# Altium footprint library 2809Control.pcblib: 31 footprints (part 2 of 2)
Each footprint in its own frame and in the unit in brackets; x right, y up, seen from the top. Pads: shape width x height; smd on the part's side, far side on the other; paste and mask are expansions set on the pad; w line width, h text height; cw(c..) or ccw(c..) is an arc to the next point about the centre after c.
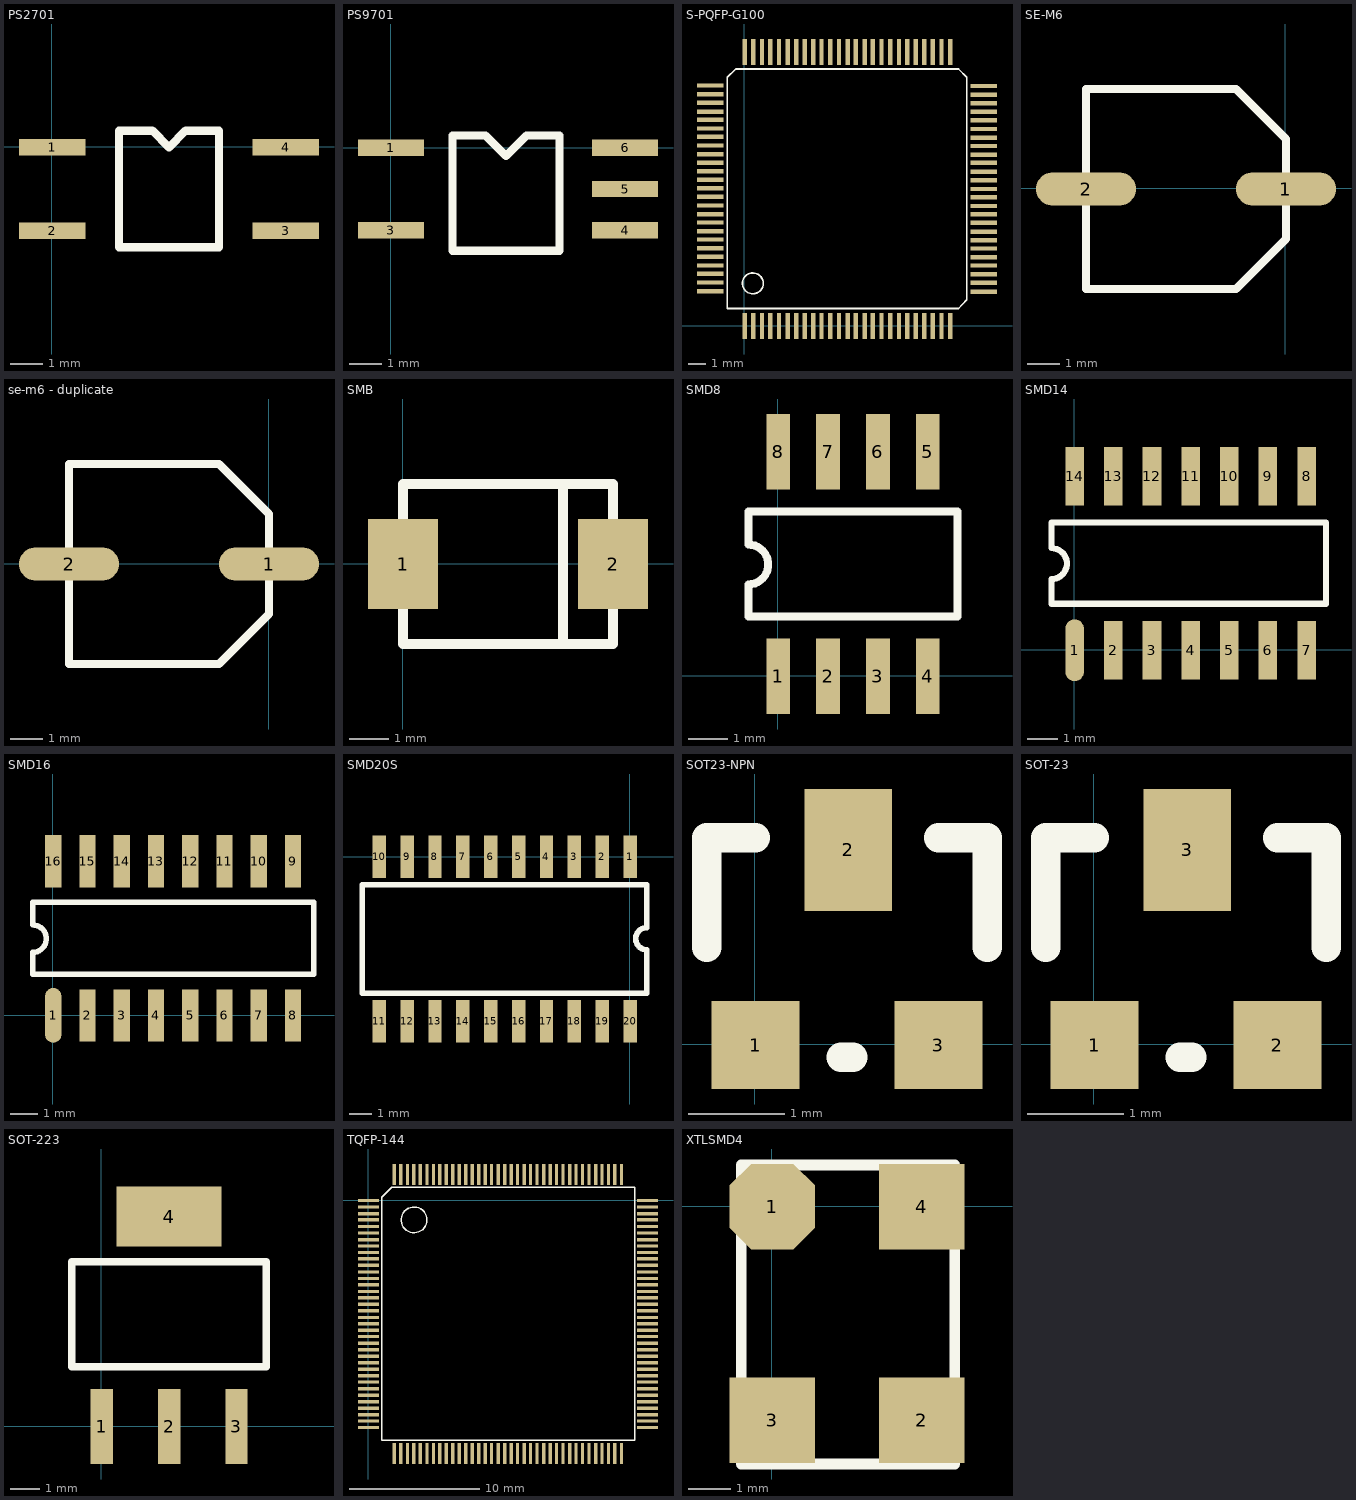
[diagram p1: the footprints below, top view; thin cyan lines are the x and y axes]

## PS2701 [mil]
pads (4):
  rect 80x20 smd: 1(0.82,-0.82) 2(0.82,-100.82) 3(280.82,-100.82) 4(280.82,-0.82)
TopOverlay:
  lines w10: 80.82,-120.82 200.82,-120.82 200.82,19.18 160.82,19.18 140.82,-0.82 120.82,19.18 80.82,19.18 80.82,-120.82

## PS9701 [mil]
pads (5):
  rect 80x20 smd: 1(0.42,-0.4) 3(0.42,-100.4) 4(285.42,-100.4) 5(285.42,-50.4) 6(285.42,-0.4)
TopOverlay:
  lines w5: 75.42,-125.4 205.42,-125.4 ; 115.42,14.6 140.42,-10.4 165.42,14.6
  lines w10: 75.42,-125.4 205.42,-125.4 205.42,14.6 165.42,14.6 140.42,-10.4 115.42,14.6 75.42,14.6 75.42,-125.4

## S-PQFP-G100 [mil]
pads (100):
  rect 10x60 smd: 1(0.41,-0.41) 2(20.41,-0.41) 3(40.41,-0.41) 4(59.41,-0.41) 5(79.41,-0.41) 6(99.41,-0.41) 7(119.41,-0.41) 8(138.41,-0.41) 9(158.41,-0.41) 10(177.41,-0.41) 11(197.41,-0.41) 12(217.41,-0.41) 13(237.41,-0.41) 14(256.41,-0.41) 15(276.41,-0.41) 16(295.41,-0.41) 17(315.41,-0.41) 18(335.41,-0.41) 19(355.41,-0.41) 20(374.41,-0.41) 21(394.41,-0.41) 22(413.41,-0.41) 23(433.41,-0.41) 24(453.41,-0.41) 25(473.41,-0.41) 51(473.41,629.59) 52(453.41,629.59) 53(433.41,629.59) 54(413.41,629.59) 55(394.41,629.59) 56(374.41,629.59) 57(355.41,629.59) 58(335.41,629.59) 59(315.41,629.59) 60(295.41,629.59) 61(276.41,629.59) 62(256.41,629.59) 63(237.41,629.59) 64(217.41,629.59) 65(197.41,629.59) 66(177.41,629.59) 67(158.41,629.59) 68(138.41,629.59) 69(119.41,629.59) 70(99.41,629.59) 71(79.41,629.59) 72(59.41,629.59) 73(40.41,629.59) 74(20.41,629.59) 75(0.41,629.59)
  rect 60x10 smd: 26(550.41,78.59) 27(550.41,98.59) 28(550.41,118.59) 29(550.41,138.59) 30(550.41,157.59) 31(550.41,177.59) 32(550.41,196.59) 33(550.41,216.59) 34(550.41,236.59) 35(550.41,256.59) 36(550.41,275.59) 37(550.41,295.59) 38(550.41,314.59) 39(550.41,334.59) 40(550.41,354.59) 41(550.41,374.59) 42(550.41,393.59) 43(550.41,413.59) 44(550.41,432.59) 45(550.41,452.59) 46(550.41,472.59) 47(550.41,492.59) 48(550.41,511.59) 49(550.41,531.59) 50(550.41,551.59) 76(-78.59,552.59) 77(-78.59,532.59) 78(-78.59,512.59) 79(-78.59,492.59) 80(-78.59,473.59) 81(-78.59,453.59) 82(-78.59,434.59) 83(-78.59,414.59) 84(-78.59,394.59) 85(-78.59,374.59) 86(-78.59,355.59) 87(-78.59,335.59) 88(-78.59,316.59) 89(-78.59,296.59) 90(-78.59,276.59) 91(-78.59,256.59) 92(-78.59,237.59) 93(-78.59,217.59) 94(-78.59,198.59) 95(-78.59,178.59) 96(-78.59,158.59) 97(-78.59,138.59) 98(-78.59,119.59) 99(-78.59,99.59) 100(-78.59,79.59)
TopOverlay:
  circle w4: c19.41,97.59 r24
  lines w4: -39.59,39.59 -39.59,571.59 -19.59,590.59 492.41,590.59 511.41,571.59 511.41,59.59 492.41,39.59 -39.59,39.59

## SE-M6 [mil]
pads (2):
  oval 120x40 smd: 1(0.84,-0.8) 2(-239.16,-0.8)
TopOverlay:
  lines w10: -239.16,-120.8 -79.16,-120.8 -59.16,-120.8 0.84,-60.8 0.84,59.2 -59.16,119.2 -79.16,119.2 -239.16,119.2 -239.16,-120.8

## se-m6 - duplicate [mil]
pads (2):
  oval 120x40 smd: 1(0.43,-0.39) 2(-239.57,-0.39)
TopOverlay:
  lines w10: -239.57,-120.39 -239.57,119.61 -79.57,119.61 -59.57,119.61 0.43,59.61 0.43,-60.39 -59.57,-120.39 -79.57,-120.39 -239.57,-120.39

## SMB [mil]
pads (2):
  rect 70x90 smd: 1(0.41,-0.41) 2(210.41,-0.41)
TopOverlay:
  lines w10: 160.41,-80.41 160.41,79.59 ; 0.41,-80.41 210.41,-80.41 210.41,79.59 0.41,79.59 0.41,-80.41

## SMD8 [mil]
pads (8):
  rect 24x76 smd: 1(0.43,-0.41) 2(50.43,-0.41) 3(100.43,-0.41) 4(150.43,-0.41) 5(150.43,224.59) 6(100.43,224.59) 7(50.43,224.59) 8(0.43,224.59)
TopOverlay:
  lines w8: -29.57,59.59 -29.57,91.59 ccw(c-29.57,111.59) -29.57,131.59 -29.57,164.59 180.43,164.59 180.43,59.59 -29.57,59.59

## SMD14 [mil]
pads (14):
  oval 24x80 smd: 1(0.42,-0.4)
  rect 24x76 smd: 2(50.42,-0.4) 3(100.42,-0.4) 4(150.42,-0.4) 5(200.42,-0.4) 6(250.42,-0.4) 7(300.42,-0.4) 8(300.42,224.6) 9(250.42,224.6) 10(200.42,224.6) 11(150.42,224.6) 12(100.42,224.6) 13(50.42,224.6) 14(0.42,224.6)
TopOverlay:
  lines w8: -29.58,59.6 -29.58,91.6 ccw(c-29.58,111.6) -29.58,131.6 -29.58,164.6 325.42,164.6 325.42,59.6 -29.58,59.6

## SMD16 [mil]
pads (16):
  oval 24x80 smd: 1(0.42,-0.4)
  rect 24x76 smd: 2(50.42,-0.4) 3(100.42,-0.4) 4(150.42,-0.4) 5(200.42,-0.4) 6(250.42,-0.4) 7(300.42,-0.4) 8(350.42,-0.4) 9(350.42,224.6) 10(300.42,224.6) 11(250.42,224.6) 12(200.42,224.6) 13(150.42,224.6) 14(100.42,224.6) 15(50.42,224.6) 16(0.42,224.6)
TopOverlay:
  lines w8: -29.58,59.6 -29.58,91.6 ccw(c-29.58,111.6) -29.58,131.6 -29.58,164.6 380.42,164.6 380.42,59.6 -29.58,59.6

## SMD20S [mil]
pads (20):
  rect 24x76 smd: 1(0.42,-0.4) 2(-49.58,-0.4) 3(-99.58,-0.4) 4(-149.58,-0.4) 5(-199.58,-0.4) 6(-249.58,-0.4) 7(-299.58,-0.4) 8(-349.58,-0.4) 9(-399.58,-0.4) 10(-449.58,-0.4) 11(-449.58,-295.4) 12(-399.58,-295.4) 13(-349.58,-295.4) 14(-299.58,-295.4) 15(-249.58,-295.4) 16(-199.58,-295.4) 17(-149.58,-295.4) 18(-99.58,-295.4) 19(-49.58,-295.4) 20(0.42,-295.4)
TopOverlay:
  lines w10: -479.58,-245.4 -479.58,-50.4 30.42,-50.4 30.42,-127.4 ccw(c30.42,-147.4) 30.42,-167.4 30.42,-245.4 -479.58,-245.4

## SOT23-NPN [mil]
pads (3):
  rect 36x36 smd: 1(0.42,-0.4) 3(75.42,-0.4)
  rect 36x50 smd: 2(38.42,79.6)
TopOverlay:
  lines w12: -19.58,39.6 -19.58,84.6 0.42,84.6 ; 35.42,-5.4 40.42,-5.4 ; 75.42,84.6 95.42,84.6 95.42,39.6

## SOT-23 [mil]
pads (3):
  rect 36x36 smd: 1(0.41,-0.41) 2(75.41,-0.41)
  rect 36x50 smd: 3(38.41,79.59)
TopOverlay:
  lines w12: -19.59,39.59 -19.59,84.59 0.41,84.59 ; 35.41,-5.41 40.41,-5.41 ; 75.41,84.59 95.41,84.59 95.41,39.59

## SOT-223 [mil]
pads (4):
  rect 30x100 smd: 1(0.42,-0.4) 2(90.42,-0.4) 3(180.42,-0.4)
  rect 140x80 smd: 4(90.42,279.6)
TopOverlay:
  lines w10: -39.58,79.6 220.42,79.6 220.42,219.6 -39.58,219.6 -39.58,79.6

## TQFP-144 [mil]
pads (144):
  rect 63x10 smd: 1(0.42,-0.4) 2(0.42,-20.4) 3(0.42,-40.4) 4(0.42,-59.4) 5(0.42,-79.4) 6(0.42,-99.4) 7(0.42,-119.4) 8(0.42,-138.4) 9(0.42,-158.4) 10(0.42,-177.4) 11(0.42,-197.4) 12(0.42,-217.4) 13(0.42,-237.4) 14(0.42,-256.4) 15(0.42,-276.4) 16(0.42,-295.4) 17(0.42,-315.4) 18(0.42,-335.4) 19(0.42,-355.4) 20(0.42,-374.4) 21(0.42,-394.4) 22(0.42,-413.4) 23(0.42,-433.4) 24(0.42,-453.4) 25(0.42,-473.4) 26(0.42,-492.4) 27(0.42,-512.4) 28(0.42,-532.4) 29(0.42,-551.4) 30(0.42,-571.4) 31(0.42,-591.4) 32(0.42,-611.4) 33(0.42,-630.4) 34(0.42,-650.4) 35(0.42,-669.4) 36(0.42,-689.4) 73(846.42,-689.4) 74(846.42,-669.4) 75(846.42,-650.4) 76(846.42,-630.4) 77(846.42,-611.4) 78(846.42,-591.4) 79(846.42,-571.4) 80(846.42,-551.4) 81(846.42,-532.4) 82(846.42,-512.4) 83(846.42,-492.4) 84(846.42,-473.4) 85(846.42,-453.4) 86(846.42,-433.4) 87(846.42,-413.4) 88(846.42,-394.4) 89(846.42,-374.4) 90(846.42,-355.4) 91(846.42,-335.4) 92(846.42,-315.4) 93(846.42,-295.4) 94(846.42,-276.4) 95(846.42,-256.4) 96(846.42,-237.4) 97(846.42,-217.4) 98(846.42,-197.4) 99(846.42,-177.4) 100(846.42,-158.4) 101(846.42,-138.4) 102(846.42,-119.4) 103(846.42,-99.4) 104(846.42,-79.4) 105(846.42,-59.4) 106(846.42,-40.4) 107(846.42,-20.4) 108(846.42,-0.4)
  rect 10x63 smd: 37(78.42,-768.4) 38(98.42,-768.4) 39(118.42,-768.4) 40(137.42,-768.4) 41(157.42,-768.4) 42(177.42,-768.4) 43(197.42,-768.4) 44(216.42,-768.4) 45(236.42,-768.4) 46(255.42,-768.4) 47(275.42,-768.4) 48(295.42,-768.4) 49(315.42,-768.4) 50(334.42,-768.4) 51(354.42,-768.4) 52(373.42,-768.4) 53(393.42,-768.4) 54(413.42,-768.4) 55(433.42,-768.4) 56(452.42,-768.4) 57(472.42,-768.4) 58(491.42,-768.4) 59(511.42,-768.4) 60(531.42,-768.4) 61(551.42,-768.4) 62(570.42,-768.4) 63(590.42,-768.4) 64(610.42,-768.4) 65(629.42,-768.4) 66(649.42,-768.4) 67(669.42,-768.4) 68(689.42,-768.4) 69(708.42,-768.4) 70(728.42,-768.4) 71(747.42,-768.4) 72(767.42,-768.4) 109(767.42,78.6) 110(747.42,78.6) 111(728.42,78.6) 112(708.42,78.6) 113(689.42,78.6) 114(669.42,78.6) 115(649.42,78.6) 116(629.42,78.6) 117(610.42,78.6) 118(590.42,78.6) 119(570.42,78.6) 120(551.42,78.6) 121(531.42,78.6) 122(511.42,78.6) 123(491.42,78.6) 124(472.42,78.6) 125(452.42,78.6) 126(433.42,78.6) 127(413.42,78.6) 128(393.42,78.6) 129(373.42,78.6) 130(354.42,78.6) 131(334.42,78.6) 132(315.42,78.6) 133(295.42,78.6) 134(275.42,78.6) 135(255.42,78.6) 136(236.42,78.6) 137(216.42,78.6) 138(197.42,78.6) 139(177.42,78.6) 140(157.42,78.6) 141(137.42,78.6) 142(118.42,78.6) 143(98.42,78.6) 144(78.42,78.6)
TopOverlay:
  circle w4: c138.42,-59.4 r39
  lines w4: 40.42,-727.4 808.42,-727.4 808.42,-492.4 808.42,38.6 808.42,39.6 70.42,39.6 40.42,9.6 40.42,-727.4

## XTLSMD4 [mil]
pads (4):
  oct 80x80 smd: 1(0.41,-0.4)
  rect 80x80 smd: 2(140.41,-200.4) 3(0.41,-200.4) 4(140.41,-0.4)
TopOverlay:
  lines w10: -28.59,-241.4 171.41,-241.4 171.41,38.6 -28.59,38.6 -28.59,-241.4